# Altium footprint library EceParts.PcbLib: 92 footprints (part 5 of 6)
Each footprint in its own frame and in the unit in brackets; x right, y up, seen from the top. Pads: shape width x height; smd on the part's side, far side on the other; paste and mask are expansions set on the pad; w line width, h text height; cw(c..) or ccw(c..) is an arc to the next point about the centre after c.
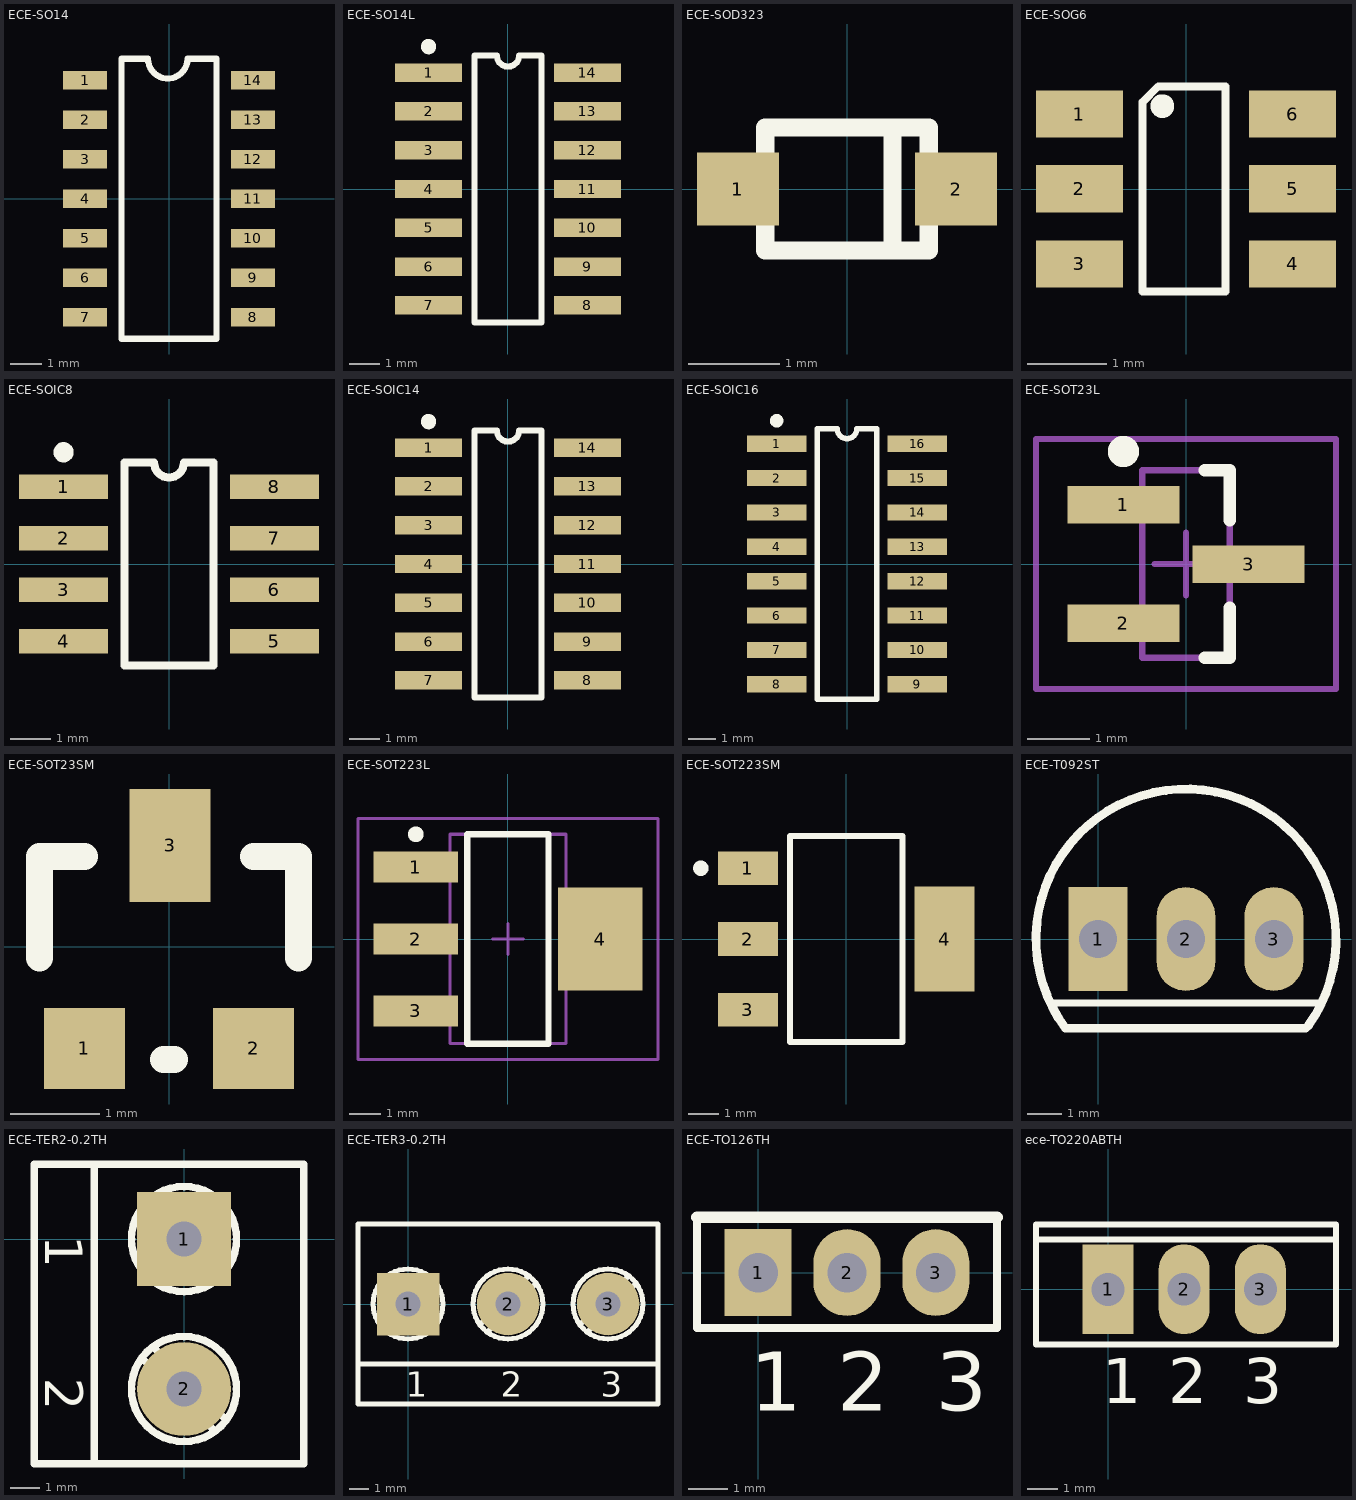
[diagram p4: the footprints below, top view; thin cyan lines are the x and y axes]

## ECE-SO14 [mm] "SO and SOJ 14 pin"
pads (14):
  rect 1.4x0.6 smd: 1(-2.7,3.81) 2(-2.7,2.54) 3(-2.7,1.27) 4(-2.7,0) 5(-2.7,-1.27) 6(-2.7,-2.54) 7(-2.7,-3.81) 8(2.7,-3.81) 9(2.7,-2.54) 10(2.7,-1.27) 11(2.7,0) 12(2.7,1.27) 13(2.7,2.54) 14(2.7,3.81)
Top Overlay:
  lines w0.2: -1.524,-4.5 -1.524,4.5 -0.675,4.5 ccw(c-0.04,4.5) 0.595,4.5 1.524,4.5 1.524,-4.5 -1.524,-4.5
3D body: height 1.75, standoff 0, extent -3,-4.375 3,4.375

## ECE-SO14L [mm] "14 Leads; Body Width 3.9 mm; Pitch 1.27 mm, Low intensity"
height 1.75
pads (14):
  rect 2.2x0.6 smd: 1(-2.6,3.81) 2(-2.6,2.54) 3(-2.6,1.27) 4(-2.6,0) 5(-2.6,-1.27) 6(-2.6,-2.54) 7(-2.6,-3.81) 8(2.6,-3.81) 9(2.6,-2.54) 10(2.6,-1.27) 11(2.6,0) 12(2.6,1.27) 13(2.6,2.54) 14(2.6,3.81)
Top Overlay:
  circle w0.25: c-2.6,4.66 r0.125
  lines w0.2: -1.1,-4.375 -1.1,4.375 -0.367,4.375 ccw(c0,4.375) 0.367,4.375 1.1,4.375 1.1,-4.375 -1.1,-4.375

## ECE-SOD323 [mm]
pads (2):
  rect 0.9x0.8 smd: 1(-1.2,0) 2(1.2,0)
Top Overlay:
  lines w0.2: 0.5,-0.675 0.5,0.675 ; -0.9,-0.675 0.9,-0.675 0.9,0.675 -0.9,0.675 -0.9,-0.675
3D body: height 1.1, standoff 0, extent -1.3,-0.675 1.3,0.675

## ECE-SOG6 [mm] "6-Lead Plastic Small Outline, 0.95mm pitch"
pads (6):
  rect 1.1x0.6 smd: 1(-1.35,0.95) 2(-1.35,0.005) 3(-1.35,-0.95) 4(1.35,-0.95) 5(1.35,0.005) 6(1.35,0.95)
Top Overlay:
  circle w0.2: c-0.3,1.05 r0.05
  lines w0.1: -0.55,-1.3 -0.55,1.1 -0.35,1.3 -0.2,1.3 0.5,1.3 0.5,-1.3 -0.55,-1.3

## ECE-SOIC8 [mm] "Small Outline; 8 Leads; Body Width 3.9 mm; Pitch 1.27 mm"
height 1.75
pads (8):
  rect 2.2x0.6 smd: 1(-2.6,1.905) 2(-2.6,0.635) 3(-2.6,-0.635) 4(-2.6,-1.905) 5(2.6,-1.905) 6(2.6,-0.635) 7(2.6,0.635) 8(2.6,1.905)
Top Overlay:
  circle w0.25: c-2.6,2.755 r0.125
  lines w0.2: -1.1,-2.5 1.1,-2.5 1.1,2.5 0.367,2.5 cw(c0,2.5) -0.367,2.5 -1.1,2.5 -1.1,-2.5
3D body: height 1.7, standoff 0, extent -3,-2.45 3,2.45

## ECE-SOIC14 [mm] "Small Outline; 14 Leads; Body Width 3.9 mm; Pitch 1.27 mm"
height 1.75
pads (14):
  rect 2.2x0.6 smd: 1(-2.6,3.81) 2(-2.6,2.54) 3(-2.6,1.27) 4(-2.6,0) 5(-2.6,-1.27) 6(-2.6,-2.54) 7(-2.6,-3.81) 8(2.6,-3.81) 9(2.6,-2.54) 10(2.6,-1.27) 11(2.6,0) 12(2.6,1.27) 13(2.6,2.54) 14(2.6,3.81)
Top Overlay:
  circle w0.25: c-2.6,4.66 r0.125
  lines w0.2: -1.1,-4.375 -1.1,4.375 -0.367,4.375 ccw(c0,4.375) 0.367,4.375 1.1,4.375 1.1,-4.375 -1.1,-4.375
3D body: height 1.75, standoff 0, extent -3,-4.375 3,4.375

## ECE-SOIC16 [mm] "Small Outline; 16 Leads; Body Width 3.9 mm; Pitch 1.27 mm"
height 1.75
pads (16):
  rect 2.2x0.6 smd: 1(-2.6,4.445) 2(-2.6,3.175) 3(-2.6,1.905) 4(-2.6,0.635) 5(-2.6,-0.635) 6(-2.6,-1.905) 7(-2.6,-3.175) 8(-2.6,-4.445) 9(2.6,-4.445) 10(2.6,-3.175) 11(2.6,-1.905) 12(2.6,-0.635) 13(2.6,0.635) 14(2.6,1.905) 15(2.6,3.175) 16(2.6,4.445)
Top Overlay:
  circle w0.25: c-2.6,5.295 r0.125
  lines w0.2: -1.1,-5 1.1,-5 1.1,5 0.367,5 cw(c0,5) -0.367,5 -1.1,5 -1.1,-5
3D body: height 1.75, standoff 0, extent -3,-5 3,5

## ECE-SOT23L [mm] "SOT23, 3-Leads, Body 2.9x1.3mm, Pitch 0.95mm, Lead Span 2.5mm, IPC Low Density"
height 1.1
pads (3):
  rect 1.8x0.6 smd: 1(-1,0.95) 2(-1,-0.95) 3(1,0)
Top Overlay:
  circle w0.25: c-1,1.8 r0.125
  lines w0.2: 0.3,-1.5 0.7,-1.5 0.7,-0.7 ; 0.3,1.5 0.7,1.5 0.7,0.7
Mechanical 13:
  lines w0.1: -0.7,-1.5 -0.7,1.5 0.7,1.5 0.7,-1.5 -0.7,-1.5
Mechanical 15:
  lines w0.1: -0.5,0 0.5,0 ; 0,-0.5 0,0.5 ; -2.4,-2 -2.4,2 2.4,2 2.4,-2 -2.4,-2
3D body: height 1.1, standoff 0, extent -0.7,-1.5 0.7,1.5

## ECE-SOT23SM [mil] "SOT23 Medium Intensity"
height 43.31
pads (3):
  rect 36x36 smd: 1(-37.5,-45) 2(37.5,-45)
  rect 36x50 smd: 3(0.5,45)
Top Overlay:
  lines w12: -57.5,-5 -57.5,40 -37.5,40 ; -2.5,-50 2.5,-50 ; 37.5,40 57.5,40 57.5,-5
3D body: height 39.37, standoff 0, extent -57.48,-46.06 57.48,46.07

## ECE-SOT223L [mm] "SOT223/SC73, 4-Leads, Body 6.5x3.5mm, Pitch 2.3mm, Lead Span 7mm, IPC Low Density"
height 1.8
pads (4):
  rect 2.7x1 smd: 1(-2.95,2.3) 2(-2.95,0) 3(-2.95,-2.3)
  rect 2.7x3.3 smd: 4(2.95,0)
Top Overlay:
  circle w0.25: c-2.95,3.35 r0.125
  lines w0.2: -1.3,-3.35 -1.3,3.35 1.3,3.35 1.3,-3.35 -1.3,-3.35
Mechanical 13:
  lines w0.1: -1.85,-3.35 -1.85,3.35 1.85,3.35 1.85,-3.35 -1.85,-3.35
Mechanical 15:
  lines w0.1: -0.5,0 0.5,0 ; 0,-0.5 0,0.5 ; -4.8,-3.85 -4.8,3.85 4.8,3.85 4.8,-3.85 -4.8,-3.85
3D body: height 1.8, standoff 0, extent -1.85,-3.35 1.85,3.35

## ECE-SOT223SM [mm] "Transistor SOT223 Body 6.7X3.7X1.8"
height 1.8
pads (4):
  rect 1.95x1.1 smd: 1(-3.2,2.3) 2(-3.2,0) 3(-3.2,-2.3)
  rect 1.95x3.4 smd: 4(3.2,0)
Top Overlay:
  circle w0.25: c-4.725,2.3 r0.125
  lines w0.2: -1.825,-3.35 1.825,-3.35 1.825,3.35 -1.825,3.35 -1.825,-3.35
3D body: height 1.7, standoff 0, extent -3.5,-3.25 3.5,3.25

## ECE-T092ST [mm] "BC639-flat"
pads (3):
  rect 1.7x3 hole 1.1: 1(0,0)
  oval 1.7x3 hole 1.1: 2(2.54,0) 3(5.08,0)
Top Overlay:
  lines w0.2: -1.4,-1.85 6.4,-1.85
  lines w0.254: 6.003,-2.582 -0.944,-2.582 cw(c2.54,0) 6.079,-2.506

## ECE-TER2-0.2TH [mm] "Screw Terminal 2 pin pitch 5.08"
height 10
pads (2):
  rect 3.175x3.175 hole 1.2: 1(0,0)
  round 3.175 hole 1.2: 2(0,-5.08)
Top Overlay:
  circle w0.254: c0,0 r1.778
  circle w0.254: c0,-5.08 r1.778
  lines w0.254: -3.048,-7.62 -3.048,2.54 ; -1.397,-4.064 -0.381,-5.08 1.016,-6.477 ; -1.397,1.016 -0.381,0 1.016,-1.397 ; -1.016,-3.683 0.381,-5.08 1.397,-6.096 ; -1.016,1.397 0.381,0 1.397,-1.016 ; -5.08,-7.62 -5.08,2.54 4.064,2.54 4.064,-7.62 -5.08,-7.62
  text "2" at -4.699,-4.699 h1.27
  text "1" at -4.699,0.127 h1.27

## ECE-TER3-0.2TH [mil] "3 way screw terminal"
height 393.7
pads (3):
  rect 125x125 hole 50: 1(0,0)
  round 125 hole 50: 2(200,0) 3(400,0)
Top Overlay:
  circle w10: c200,0 r70
  circle w10: c0,0 r70
  circle w10: c400,0 r70
  lines w10: -100,-120 500,-120 ; -55,-40 0,15 40,55 ; -40,-55 0,-15 55,40 ; 145,-40 200,15 240,55 ; 160,-55 200,-15 255,40 ; 345,-40 400,15 440,55 ; 360,-55 400,-15 455,40 ; -100,-200 500,-200 500,160 -100,160 -100,-200
  text "3" at 385,-185 h50
  text "2" at 185,-185 h50
  text "1" at -5,-185 h50

## ECE-TO126TH [mm] "Transidtor TO126"
height 13.3
pads (3):
  rect 1.7x2.2 hole 1: 1(0,0)
  oval 1.7x2.2 hole 1: 2(2.25,0) 3(4.5,0)
Top Overlay:
  lines w0.2: -1.55,1.4 -1.55,-1.4 6.05,-1.4 6.05,1.4
  lines w0.3: -1.55,1.4 6.05,1.4
  text "1" at -0.2,-3.5 h1.5
  text "2" at 2,-3.5 h1.5
  text "3" at 4.5,-3.5 h1.5

## ece-TO220ABTH [mm] "Transistor TO220"
height 16
pads (3):
  rect 1.7x3 hole 1.1: 1(0,0)
  oval 1.7x3 hole 1.1: 2(2.54,0) 3(5.08,0)
Top Overlay:
  lines w0.2: -2.4,1.8 -2.4,-1.85 ; -2.35,1.65 7.6,1.65 ; -1.4,-1.85 7.6,-1.85 7.6,2.15 -2.4,2.15 -2.4,-1.85 ; 5.4,-1.85 -2.4,-1.85
  text "3" at 4.5,-3.8 h1.5
  text "2" at 2,-3.8 h1.5
  text "1" at -0.2,-3.8 h1.5